# Altium schematic symbol library 831-87-010-10-001101.SchLib: 1 symbol
Pins are listed as number, name and electrical type; pins without a type are passive.

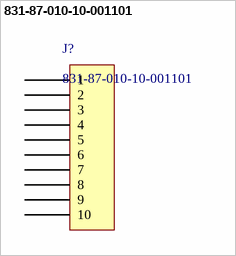
[diagram p0: symbol 831-87-010-10-001101]

## 831-87-010-10-001101
designator J?
pins: 1, 2, 3, 4, 5, 6, 7, 8, 9, 10